# Altium integrated library Altium_WCAP-CSGP (rev21d).IntLib: 945 symbols (part 17 of 17)
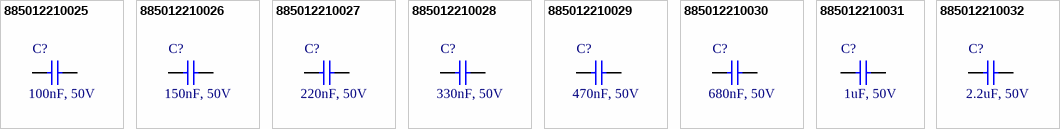
[diagram p43: symbols 885012210025 to 885012210032]

## 885012210025
designator C?, comment 100nF, 50V
WCAP-CSGP Multilayer Ceramic Chip Capacitor, General Purpose, size 1812, X7R, 100nF, 50V; Manufacturer Part Number: 885012210025; Manufacturer: Wurth Elektronik; Rated Voltage: 50VDC; Isolation Resistance  min.: 5GOhm; Capacitance Tolerance: +/-10%; Dissipation Factor max.: 2.5%; Technical Reference: X7R1812104K050DFCT10000; ComponentLink1Description: Manufacturer; ComponentLink1URL: http://www.we-online.de; ComponentLink2Description: Datasheet; ComponentLink2URL: https://www.we-online.com/catalog/datasheet/885012210025.pdf; Operating Temperature: -55 to +125degC; Packaging: Tape and Reel; Published Date: April 2021; Ceramic Type: X7R; Height: 1.25mm; Mounting Technology: SMT; Size: 1812; Capacitance: 100nF; Q-Factor min.: -
footprint WCAP-CSGP_1812_H=1.25mm
pins: 1, 2

## 885012210026
designator C?, comment 150nF, 50V
WCAP-CSGP Multilayer Ceramic Chip Capacitor, General Purpose, size 1812, X7R, 150nF, 50V; Manufacturer Part Number: 885012210026; Manufacturer: Wurth Elektronik; Rated Voltage: 50VDC; Isolation Resistance  min.: 3.3GOhm; Capacitance Tolerance: +/-10%; Dissipation Factor max.: 2.5%; Technical Reference: X7R1812154K050DFCT10000; ComponentLink1Description: Manufacturer; ComponentLink1URL: http://www.we-online.de; ComponentLink2Description: Datasheet; ComponentLink2URL: https://www.we-online.com/catalog/datasheet/885012210026.pdf; Operating Temperature: -55 to +125degC; Packaging: Tape and Reel; Published Date: April 2021; Ceramic Type: X7R; Height: 1.25mm; Mounting Technology: SMT; Size: 1812; Capacitance: 150nF; Q-Factor min.: -
footprint WCAP-CSGP_1812_H=1.25mm
pins: 1, 2

## 885012210027
designator C?, comment 220nF, 50V
WCAP-CSGP Multilayer Ceramic Chip Capacitor, General Purpose, size 1812, X7R, 220nF, 50V; Manufacturer Part Number: 885012210027; Manufacturer: Wurth Elektronik; Rated Voltage: 50VDC; Isolation Resistance  min.: 2.3GOhm; Capacitance Tolerance: +/-10%; Dissipation Factor max.: 2.5%; Technical Reference: X7R1812224K050DFCT10000; ComponentLink1Description: Manufacturer; ComponentLink1URL: http://www.we-online.de; ComponentLink2Description: Datasheet; ComponentLink2URL: https://www.we-online.com/catalog/datasheet/885012210027.pdf; Operating Temperature: -55 to +125degC; Packaging: Tape and Reel; Published Date: April 2021; Ceramic Type: X7R; Height: 1.25mm; Mounting Technology: SMT; Size: 1812; Capacitance: 220nF; Q-Factor min.: -
footprint WCAP-CSGP_1812_H=1.25mm
pins: 1, 2

## 885012210028
designator C?, comment 330nF, 50V
WCAP-CSGP Multilayer Ceramic Chip Capacitor, General Purpose, size 1812, X7R, 330nF, 50V; Manufacturer Part Number: 885012210028; Manufacturer: Wurth Elektronik; Rated Voltage: 50VDC; Isolation Resistance  min.: 1.5GOhm; Capacitance Tolerance: +/-10%; Dissipation Factor max.: 2.5%; Technical Reference: X7R1812334K050DFCT10000; ComponentLink1Description: Manufacturer; ComponentLink1URL: http://www.we-online.de; ComponentLink2Description: Datasheet; ComponentLink2URL: https://www.we-online.com/catalog/datasheet/885012210028.pdf; Operating Temperature: -55 to +125degC; Packaging: Tape and Reel; Published Date: April 2021; Ceramic Type: X7R; Height: 1.25mm; Mounting Technology: SMT; Size: 1812; Capacitance: 330nF; Q-Factor min.: -
footprint WCAP-CSGP_1812_H=1.25mm
pins: 1, 2

## 885012210029
designator C?, comment 470nF, 50V
WCAP-CSGP Multilayer Ceramic Chip Capacitor, General Purpose, size 1812, X7R, 470nF, 50V; Manufacturer Part Number: 885012210029; Manufacturer: Wurth Elektronik; Rated Voltage: 50VDC; Isolation Resistance  min.: 1.1GOhm; Capacitance Tolerance: +/-10%; Dissipation Factor max.: 2.5%; Technical Reference: X7R1812474K050DFCT10000; ComponentLink1Description: Manufacturer; ComponentLink1URL: http://www.we-online.de; ComponentLink2Description: Datasheet; ComponentLink2URL: https://www.we-online.com/catalog/datasheet/885012210029.pdf; Operating Temperature: -55 to +125degC; Packaging: Tape and Reel; Published Date: April 2021; Ceramic Type: X7R; Height: 1.25mm; Mounting Technology: SMT; Size: 1812; Capacitance: 470nF; Q-Factor min.: -
footprint WCAP-CSGP_1812_H=1.25mm
pins: 1, 2

## 885012210030
designator C?, comment 680nF, 50V
WCAP-CSGP Multilayer Ceramic Chip Capacitor, General Purpose, size 1812, X7R, 680nF, 50V; Manufacturer Part Number: 885012210030; Manufacturer: Wurth Elektronik; Rated Voltage: 50VDC; Isolation Resistance  min.: 0.7GOhm; Capacitance Tolerance: +/-10%; Dissipation Factor max.: 2.5%; Technical Reference: X7R1812684K050DFCT10000; ComponentLink1Description: Manufacturer; ComponentLink1URL: http://www.we-online.de; ComponentLink2Description: Datasheet; ComponentLink2URL: https://www.we-online.com/catalog/datasheet/885012210030.pdf; Operating Temperature: -55 to +125degC; Packaging: Tape and Reel; Published Date: April 2021; Ceramic Type: X7R; Height: 2mm; Mounting Technology: SMT; Size: 1812; Capacitance: 680nF; Q-Factor min.: -
footprint WCAP-CSGP_1812_H=2mm
pins: 1, 2

## 885012210031
designator C?, comment 1uF, 50V
WCAP-CSGP Multilayer Ceramic Chip Capacitor, General Purpose, size 1812, X7R, 1uF, 50V; Manufacturer Part Number: 885012210031; Manufacturer: Wurth Elektronik; Rated Voltage: 50VDC; Isolation Resistance  min.: 0.5GOhm; Capacitance Tolerance: +/-10%; Dissipation Factor max.: 2.5%; Technical Reference: X7R1812105K050DFCT10000; ComponentLink1Description: Manufacturer; ComponentLink1URL: http://www.we-online.de; ComponentLink2Description: Datasheet; ComponentLink2URL: https://www.we-online.com/catalog/datasheet/885012210031.pdf; Operating Temperature: -55 to +125degC; Packaging: Tape and Reel; Published Date: April 2021; Ceramic Type: X7R; Height: 2mm; Mounting Technology: SMT; Size: 1812; Capacitance: 1uF; Q-Factor min.: -
footprint WCAP-CSGP_1812_H=2mm
pins: 1, 2

## 885012210032
designator C?, comment 2.2uF, 50V
WCAP-CSGP Multilayer Ceramic Chip Capacitor, General Purpose, size 1812, X7R, 2.2uF, 50V; Manufacturer Part Number: 885012210032; Manufacturer: Wurth Elektronik; Rated Voltage: 50VDC; Isolation Resistance  min.: 0.2GOhm; Capacitance Tolerance: +/-10%; Dissipation Factor max.: 2.5%; Technical Reference: X7R1812225K050DFCT10000; ComponentLink1Description: Manufacturer; ComponentLink1URL: http://www.we-online.de; ComponentLink2Description: Datasheet; ComponentLink2URL: https://www.we-online.com/catalog/datasheet/885012210032.pdf; Operating Temperature: -55 to +125degC; Packaging: Tape and Reel; Published Date: April 2021; Ceramic Type: X7R; Height: 2.5mm; Mounting Technology: SMT; Size: 1812; Capacitance: 2.2uF; Q-Factor min.: -
footprint WCAP-CSGP_1812_H=2.5mm
pins: 1, 2